# EAGLE library part FX10A-168P-SV(71) (library SamacSys_Parts)
Hirose FX10 Series, 0.5mm Pitch 168 Way 2 Row Straight PCB Header, Solder Termination, 0.3A Source: Datasheet <https://componentsearchengine.com/Datasheets/1/FX10A-168P-SV(71).pdf>
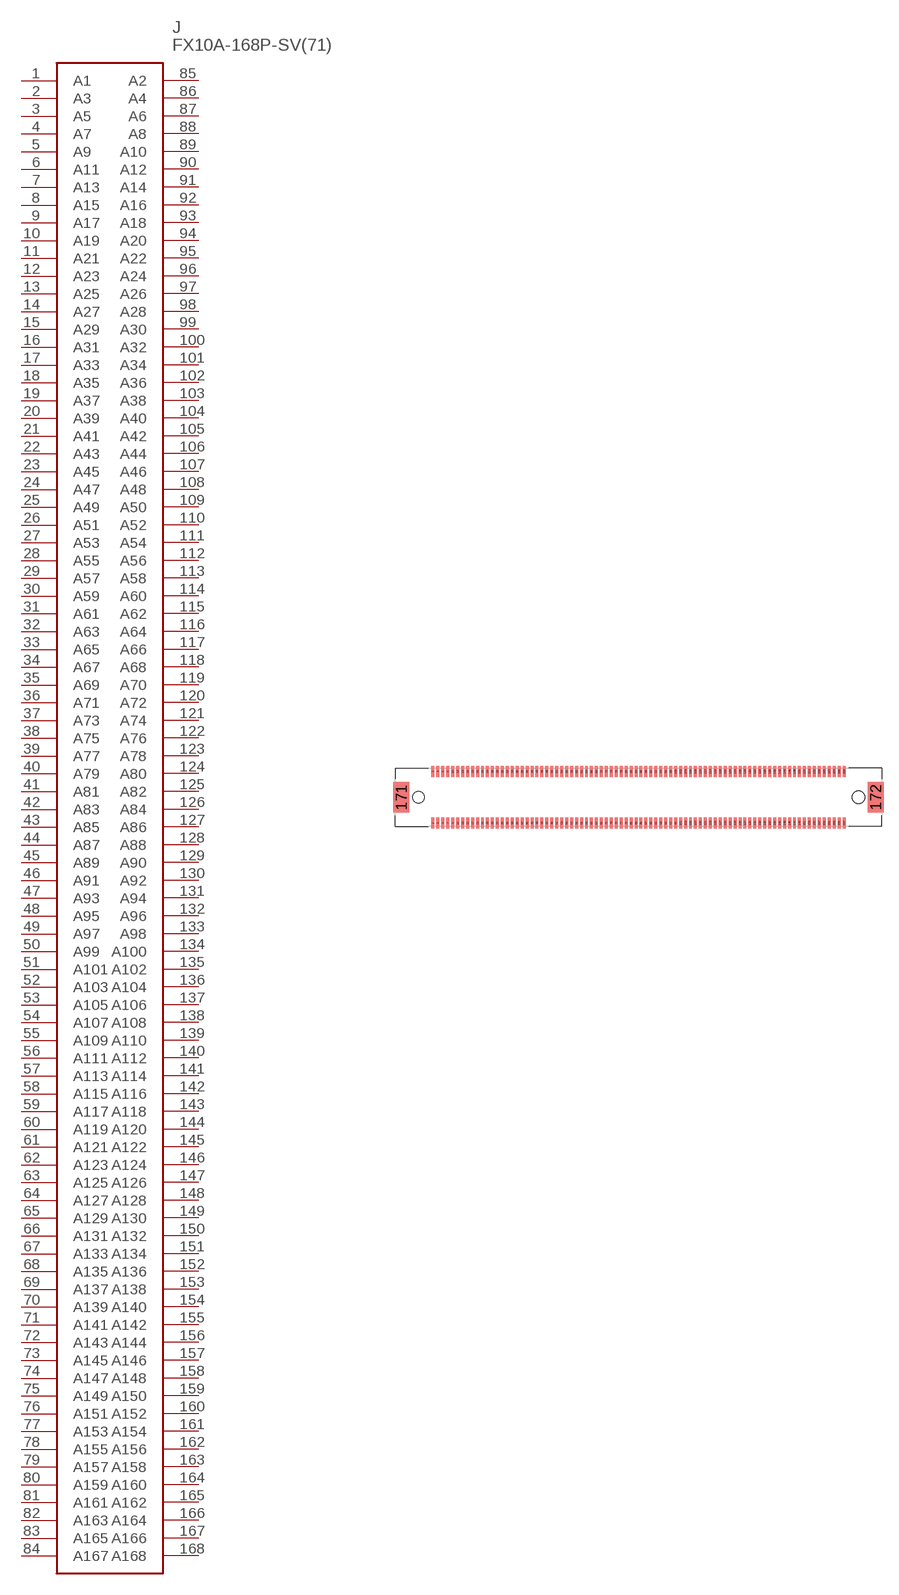
[diagram p10: symbol with the pads of FX10A-168P-SV(71); footprint FX10A-168P-SV(71)]

Designator prefix J

## FX10A-168P-SV(71) (DESCRIPTION: Hirose FX10 Series, 0.5mm Pitch 168 Way 2 Row Straight PCB Header, Solder Termination, 0.3A; HEIGHT: mm; MANUFACTURER_NAME: Hirose; MANUFACTURER_PART_NUMBER: FX10A-168P-SV(71); MOUSER_PART_NUMBER: 798-FX10A168PSV71; MOUSER_PRICE-STOCK: https://www.mouser.com/Search/Refine.aspx?Keyword=798-FX10A168PSV71)  [FX10A-168P-SV(71)]
1  A1
2  A3
3  A5
4  A7
5  A9
6  A11
7  A13
8  A15
9  A17
10  A19
11  A21
12  A23
13  A25
14  A27
15  A29
16  A31
17  A33
18  A35
19  A37
20  A39
21  A41
22  A43
23  A45
24  A47
25  A49
26  A51
27  A53
28  A55
29  A57
30  A59
31  A61
32  A63
33  A65
34  A67
35  A69
36  A71
37  A73
38  A75
39  A77
40  A79
41  A81
42  A83
43  A85
44  A87
45  A89
46  A91
47  A93
48  A95
49  A97
50  A99
51  A101
52  A103
53  A105
54  A107
55  A109
56  A111
57  A113
58  A115
59  A117
60  A119
61  A121
62  A123
63  A125
64  A127
65  A129
66  A131
67  A133
68  A135
69  A137
70  A139
71  A141
72  A143
73  A145
74  A147
75  A149
76  A151
77  A153
78  A155
79  A157
80  A159
81  A161
82  A163
83  A165
84  A167
85  A2
86  A4
87  A6
88  A8
89  A10
90  A12
91  A14
92  A16
93  A18
94  A20
95  A22
96  A24
97  A26
98  A28
99  A30
100  A32
101  A34
102  A36
103  A38
104  A40
105  A42
106  A44
107  A46
108  A48
109  A50
110  A52
111  A54
112  A56
113  A58
114  A60
115  A62
116  A64
117  A66
118  A68
119  A70
120  A72
121  A74
122  A76
123  A78
124  A80
125  A82
126  A84
127  A86
128  A88
129  A90
130  A92
131  A94
132  A96
133  A98
134  A100
135  A102
136  A104
137  A106
138  A108
139  A110
140  A112
141  A114
142  A116
143  A118
144  A120
145  A122
146  A124
147  A126
148  A128
149  A130
150  A132
151  A134
152  A136
153  A138
154  A140
155  A142
156  A144
157  A146
158  A148
159  A150
160  A152
161  A154
162  A156
163  A158
164  A160
165  A162
166  A164
167  A166
168  A168

## Footprint FX10A-168P-SV(71) (pad centres in mm)
FX10A-168P-SV(71)
smd 0.3 x 1.1: 1 -20.75,-2.6; 2 -20.75,2.6; 3 -20.25,-2.6; 4 -20.25,2.6; 5 -19.75,-2.6; 6 -19.75,2.6; 7 -19.25,-2.6; 8 -19.25,2.6; 9 -18.75,-2.6; 10 -18.75,2.6; 11 -18.25,-2.6; 12 -18.25,2.6; 13 -17.75,-2.6; 14 -17.75,2.6; 15 -17.25,-2.6; 16 -17.25,2.6; 17 -16.75,-2.6; 18 -16.75,2.6; 19 -16.25,-2.6; 20 -16.25,2.6; 21 -15.75,-2.6; 22 -15.75,2.6; 23 -15.25,-2.6; 24 -15.25,2.6; 25 -14.75,-2.6; 26 -14.75,2.6; 27 -14.25,-2.6; 28 -14.25,2.6; 29 -13.75,-2.6; 30 -13.75,2.6; 31 -13.25,-2.6; 32 -13.25,2.6; 33 -12.75,-2.6; 34 -12.75,2.6; 35 -12.25,-2.6; 36 -12.25,2.6; 37 -11.75,-2.6; 38 -11.75,2.6; 39 -11.25,-2.6; 40 -11.25,2.6; 41 -10.75,-2.6; 42 -10.75,2.6; 43 -10.25,-2.6; 44 -10.25,2.6; 45 -9.75,-2.6; 46 -9.75,2.6; 47 -9.25,-2.6; 48 -9.25,2.6; 49 -8.75,-2.6; 50 -8.75,2.6; 51 -8.25,-2.6; 52 -8.25,2.6; 53 -7.75,-2.6; 54 -7.75,2.6; 55 -7.25,-2.6; 56 -7.25,2.6; 57 -6.75,-2.6; 58 -6.75,2.6; 59 -6.25,-2.6; 60 -6.25,2.6; 61 -5.75,-2.6; 62 -5.75,2.6; 63 -5.25,-2.6; 64 -5.25,2.6; 65 -4.75,-2.6; 66 -4.75,2.6; 67 -4.25,-2.6; 68 -4.25,2.6; 69 -3.75,-2.6; 70 -3.75,2.6; 71 -3.25,-2.6; 72 -3.25,2.6; 73 -2.75,-2.6; 74 -2.75,2.6; 75 -2.25,-2.6; 76 -2.25,2.6; 77 -1.75,-2.6; 78 -1.75,2.6; 79 -1.25,-2.6; 80 -1.25,2.6; 81 -0.75,-2.6; 82 -0.75,2.6; 83 -0.25,-2.6; 84 -0.25,2.6; 85 0.25,-2.6; 86 0.25,2.6; 87 0.75,-2.6; 88 0.75,2.6; 89 1.25,-2.6; 90 1.25,2.6; 91 1.75,-2.6; 92 1.75,2.6; 93 2.25,-2.6; 94 2.25,2.6; 95 2.75,-2.6; 96 2.75,2.6; 97 3.25,-2.6; 98 3.25,2.6; 99 3.75,-2.6; 100 3.75,2.6; 101 4.25,-2.6; 102 4.25,2.6; 103 4.75,-2.6; 104 4.75,2.6; 105 5.25,-2.6; 106 5.25,2.6; 107 5.75,-2.6; 108 5.75,2.6; 109 6.25,-2.6; 110 6.25,2.6; 111 6.75,-2.6; 112 6.75,2.6; 113 7.25,-2.6; 114 7.25,2.6; 115 7.75,-2.6; 116 7.75,2.6; 117 8.25,-2.6; 118 8.25,2.6; 119 8.75,-2.6; 120 8.75,2.6; 121 9.25,-2.6; 122 9.25,2.6; 123 9.75,-2.6; 124 9.75,2.6; 125 10.25,-2.6; 126 10.25,2.6; 127 10.75,-2.6; 128 10.75,2.6; 129 11.25,-2.6; 130 11.25,2.6; 131 11.75,-2.6; 132 11.75,2.6; 133 12.25,-2.6; 134 12.25,2.6; 135 12.75,-2.6; 136 12.75,2.6; 137 13.25,-2.6; 138 13.25,2.6; 139 13.75,-2.6; 140 13.75,2.6; 141 14.25,-2.6; 142 14.25,2.6; 143 14.75,-2.6; 144 14.75,2.6; 145 15.25,-2.6; 146 15.25,2.6; 147 15.75,-2.6; 148 15.75,2.6; 149 16.25,-2.6; 150 16.25,2.6; 151 16.75,-2.6; 152 16.75,2.6; 153 17.25,-2.6; 154 17.25,2.6; 155 17.75,-2.6; 156 17.75,2.6; 157 18.25,-2.6; 158 18.25,2.6; 159 18.75,-2.6; 160 18.75,2.6; 161 19.25,-2.6; 162 19.25,2.6; 163 19.75,-2.6; 164 19.75,2.6; 165 20.25,-2.6; 166 20.25,2.6; 167 20.75,-2.6; 168 20.75,2.6
smd 1.6 x 3.1: 171 -23.95,0; 172 23.95,0
hole 1.15 at -22.2,0
hole 1.25 at 22.2,0